# Altium footprint library 功率控制板.PcbLib: 36 footprints (part 2 of 3)
Each footprint in its own frame and in the unit in brackets; x right, y up, seen from the top. Pads: shape width x height; smd on the part's side, far side on the other; paste and mask are expansions set on the pad; w line width, h text height; cw(c..) or ccw(c..) is an arc to the next point about the centre after c.
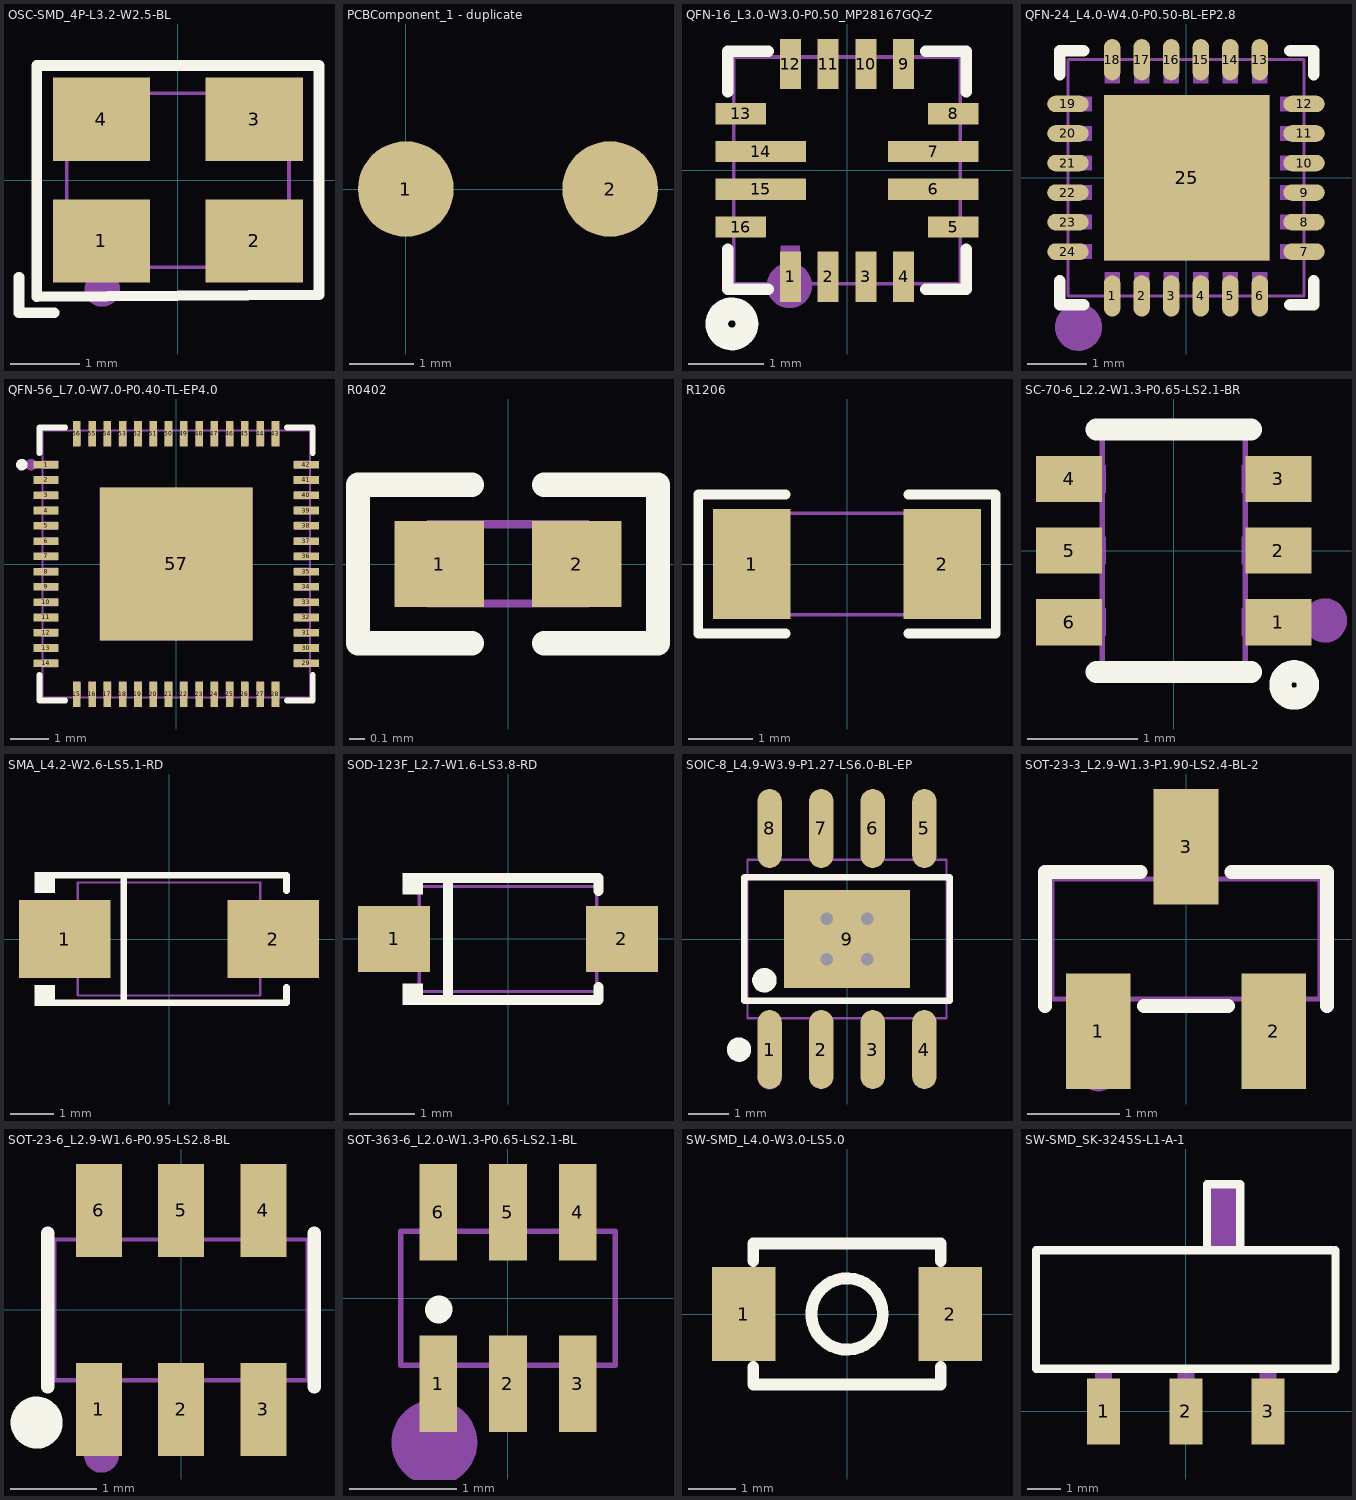
[diagram p1: the footprints below, top view; thin cyan lines are the x and y axes]

## OSC-SMD_4P-L3.2-W2.5-BL [mm]
pads (4):
  rect 1.4x1.2 smd: 1(-1.1,-0.875) 2(1.1,-0.875) 3(1.1,0.875) 4(-1.1,0.875)
Top Overlay:
  lines w0.152: -2.286,-1.397 -2.286,-1.905 -1.778,-1.905 ; -2.029,-1.679 2.032,-1.651 2.032,0 2.032,1.651 -2.029,1.651 -2.029,-1.679
Mechanical 6:
  circle w0.254: c-1.088,-1.567 r0.127
  region: -1.206,1.206 -1.206,0.572 -1.079,0.572 -1.079,1.206
  region: -1.46,0.953 -0.699,0.953 -0.699,0.826 -1.46,0.826
  region: -1.738,-0.536 -1.702,-0.536 -1.702,-0.608 -1.738,-0.608
  region: -1.702,-0.536 -1.666,-0.536 -1.666,-0.608 -1.702,-0.608
  region: -1.666,-0.5 -1.63,-0.5 -1.63,-0.608 -1.666,-0.608
  region: -1.63,-0.464 -1.594,-0.464 -1.594,-0.572 -1.63,-0.572
  region: -1.594,-0.464 -1.558,-0.464 -1.558,-1.004 -1.594,-1.004
  region: -1.558,-0.428 -1.522,-0.428 -1.522,-1.004 -1.558,-1.004
  region: -1.522,-0.428 -1.486,-0.428 -1.486,-1.004 -1.522,-1.004
  region: -1.486,-0.428 -1.45,-0.428 -1.45,-1.004 -1.486,-1.004
Mechanical 15:
  region: 0.6,-0.449 1.5,-0.449 1.5,-1.249 0.6,-1.249
  region: -1.5,-0.449 -0.6,-0.449 -0.6,-1.249 -1.5,-1.249
  region: -1.5,1.249 -0.6,1.249 -0.6,0.449 -1.5,0.449
  region: 0.6,1.249 1.5,1.249 1.5,0.449 0.6,0.449
  lines w0.051: -1.6,-1.25 1.6,-1.25 1.6,1.25 -1.6,1.25 -1.6,-1.25

## PCBComponent_1 - duplicate [mm]
pads (2):
  round 1.5 smd: 1(0,0) 2(3.2,0)

## QFN-16_L3.0-W3.0-P0.50_MP28167GQ-Z [mm]
pads (16):
  rect 0.28x0.665 smd: 1(-0.75,-1.407) 2(-0.25,-1.407) 3(0.25,-1.407) 4(0.75,-1.407) 9(0.75,1.407) 10(0.25,1.407) 11(-0.25,1.407) 12(-0.75,1.407)
  rect 0.665x0.28 smd: 5(1.407,-0.75) 8(1.407,0.75) 13(-1.407,0.75) 16(-1.407,-0.75)
  rect 1.2x0.28 smd: 6(1.14,-0.25) 7(1.14,0.25) 14(-1.14,0.25) 15(-1.14,-0.25)
Top Overlay:
  circle w0.3: c-1.524,-2.032 r0.2
  lines w0.152: -1.576,-1.042 -1.576,-1.576 -1.042,-1.576 ; -1.576,1.042 -1.576,1.576 -1.042,1.576 ; 1.042,-1.576 1.576,-1.576 1.576,-1.042 ; 1.042,1.576 1.576,1.576 1.576,1.042
Mechanical 6:
  circle w0.3: c-0.762,-1.524 r0.15
Mechanical 15:
  region: -1.5,-0.125 -0.6,-0.125 -0.6,-0.375 -1.5,-0.375
  region: -1.5,0.375 -0.6,0.375 -0.6,0.125 -1.5,0.125
  region: 0.6,0.375 1.5,0.375 1.5,0.125 0.6,0.125
  region: 0.6,-0.125 1.5,-0.125 1.5,-0.375 0.6,-0.375
  region: -0.875,-1 -0.625,-1 -0.625,-1.5 -0.875,-1.5
  region: -1.5,-0.875 -1.5,-0.625 -1.1,-0.625 -1.1,-0.875
  region: -1.5,0.625 -1.5,0.875 -1.1,0.875 -1.1,0.625
  region: -0.625,1.5 -0.625,1.1 -0.875,1.1 -0.875,1.5
  region: -0.125,1.5 -0.125,1.1 -0.375,1.1 -0.375,1.5
  region: 0.375,1.5 0.375,1.1 0.125,1.1 0.125,1.5
  region: 0.875,1.5 0.875,1.1 0.625,1.1 0.625,1.5
  region: 1.5,0.625 1.5,0.875 1.1,0.875 1.1,0.625
  region: 1.5,-0.875 1.5,-0.625 1.1,-0.625 1.1,-0.875
  region: 0.875,-1.5 0.875,-1.1 0.625,-1.1 0.625,-1.5
  region: 0.375,-1.5 0.375,-1.1 0.125,-1.1 0.125,-1.5
  region: -0.125,-1.5 -0.125,-1.1 -0.375,-1.1 -0.375,-1.5
  lines w0.051: -1.5,-1.5 1.5,-1.5 1.5,1.5 -1.5,1.5 -1.5,-1.5

## QFN-24_L4.0-W4.0-P0.50-BL-EP2.8 [mm]
pads (25):
  oval 0.28x0.7 smd paste-100 mask+0.051: 1(-1.25,-2) 2(-0.75,-2) 3(-0.25,-2) 4(0.25,-2) 5(0.75,-2) 6(1.25,-2) 13(1.25,2) 14(0.75,2) 15(0.25,2) 16(-0.25,2) 17(-0.75,2) 18(-1.25,2)
  oval 0.7x0.28 smd paste-100 mask+0.051: 7(2,-1.25) 8(2,-0.75) 9(2,-0.25) 10(2,0.25) 11(2,0.75) 12(2,1.25) 19(-2,1.25) 20(-2,0.75) 21(-2,0.25) 22(-2,-0.25) 23(-2,-0.75) 24(-2,-1.25)
  rect 2.8x2.8 smd paste-100 mask+0.051: 25(0.013,0)
Top Overlay:
  lines w0.2: -2.137,-1.75 -2.137,-2.15 -1.737,-2.15 ; -2.137,1.75 -2.137,2.15 -1.737,2.15 ; 1.763,-2.15 2.163,-2.15 2.163,-1.75 ; 1.763,2.15 2.163,2.15 2.163,1.75
Top Paste:
  region: -1.107,-1.12 -1.107,1.12 1.133,1.12 1.133,-1.12
Mechanical 6:
  circle w0.4: c-1.82,-2.53 r0.2
Mechanical 15:
  region: 1.6,1.125 1.6,1.375 2,1.375 2,1.125
  region: 1.6,0.625 1.6,0.875 2,0.875 2,0.625
  region: 1.6,0.125 1.6,0.375 2,0.375 2,0.125
  region: 1.6,-0.375 1.6,-0.125 2,-0.125 2,-0.375
  region: 1.6,-0.875 1.6,-0.625 2,-0.625 2,-0.875
  region: 1.6,-1.375 1.6,-1.125 2,-1.125 2,-1.375
  region: 1.125,-1.6 1.375,-1.6 1.375,-2 1.125,-2
  region: 0.625,-1.6 0.875,-1.6 0.875,-2 0.625,-2
  region: 0.125,-1.6 0.375,-1.6 0.375,-2 0.125,-2
  region: -0.375,-1.6 -0.125,-1.6 -0.125,-2 -0.375,-2
  region: -0.875,-1.6 -0.625,-1.6 -0.625,-2 -0.875,-2
  region: -1.375,-1.6 -1.125,-1.6 -1.125,-2 -1.375,-2
  region: -1.6,-1.125 -1.6,-1.375 -2,-1.375 -2,-1.125
  region: -1.6,-0.625 -1.6,-0.875 -2,-0.875 -2,-0.625
  region: -1.6,-0.125 -1.6,-0.375 -2,-0.375 -2,-0.125
  region: -1.6,0.375 -1.6,0.125 -2,0.125 -2,0.375
  region: -1.6,0.875 -1.6,0.625 -2,0.625 -2,0.875
  region: -1.6,1.375 -1.6,1.125 -2,1.125 -2,1.375
  region: 1.375,1.6 1.125,1.6 1.125,2 1.375,2
  region: -1.125,1.6 -1.375,1.6 -1.375,2 -1.125,2
  region: -0.625,1.6 -0.875,1.6 -0.875,2 -0.625,2
  region: -0.125,1.6 -0.375,1.6 -0.375,2 -0.125,2
  region: 0.375,1.6 0.125,1.6 0.125,2 0.375,2
  region: 0.875,1.6 0.625,1.6 0.625,2 0.875,2
  region: -1.387,1.4 1.413,1.4 1.413,-1.4 -1.387,-1.4
  lines w0.051: -2,-2 -2,2 2,2 2,-2 -2,-2

## QFN-56_L7.0-W7.0-P0.40-TL-EP4.0 [mm]
pads (57):
  rect 0.665x0.2 smd paste-100 mask+0.051: 1(-3.408,2.6) 2(-3.408,2.2) 3(-3.408,1.8) 4(-3.408,1.4) 5(-3.408,1) 6(-3.408,0.6) 7(-3.408,0.2) 8(-3.408,-0.2) 9(-3.408,-0.6) 10(-3.408,-1) 11(-3.408,-1.4) 12(-3.408,-1.8) 13(-3.408,-2.2) 14(-3.408,-2.6) 29(3.408,-2.6) 30(3.408,-2.2) 31(3.408,-1.8) 32(3.408,-1.4) 33(3.408,-1) 34(3.408,-0.6) 35(3.408,-0.2) 36(3.408,0.2) 37(3.408,0.6) 38(3.408,1) 39(3.408,1.4) 40(3.408,1.8) 41(3.408,2.2) 42(3.408,2.6)
  rect 0.2x0.665 smd paste-100 mask+0.051: 15(-2.6,-3.408) 16(-2.2,-3.408) 17(-1.8,-3.408) 18(-1.4,-3.408) 19(-1,-3.408) 20(-0.6,-3.408) 21(-0.2,-3.408) 22(0.2,-3.408) 23(0.6,-3.408) 24(1,-3.408) 25(1.4,-3.408) 26(1.8,-3.408) 27(2.2,-3.408) 28(2.6,-3.408) 43(2.6,3.408) 44(2.2,3.408) 45(1.8,3.408) 46(1.4,3.408) 47(1,3.408) 48(0.6,3.408) 49(0.2,3.408) 50(-0.2,3.408) 51(-0.6,3.408) 52(-1,3.408) 53(-1.4,3.408) 54(-1.8,3.408) 55(-2.2,3.408) 56(-2.6,3.408)
  rect 4x4 smd paste-100 mask+0.051: 57(0,0)
Top Overlay:
  circle w0.15: c-4.04,2.6 r0.075
  lines w0.152: -3.576,-2.902 -3.576,-3.576 -2.902,-3.576 ; -3.576,2.903 -3.576,3.576 -2.902,3.576 ; 2.903,-3.576 3.576,-3.576 3.576,-2.902 ; 2.903,3.576 3.576,3.576 3.576,2.903
Top Paste:
  drawing of 57 lines, arcs and shapes, not listed
Mechanical 6:
  circle w0.15: c-3.8,2.6 r0.075
Mechanical 15:
  drawing of 61 lines, arcs and shapes, not listed

## R0402 [mm]
pads (2):
  rect 0.566x0.54 smd paste-100 mask+0.051: 1(-0.433,0) 2(0.433,0)
Top Overlay:
  lines w0.152: -0.226,-0.499 -0.944,-0.499 -0.944,0.499 -0.226,0.499 ; 0.226,-0.499 0.944,-0.499 0.944,0.499 0.226,0.499
Top Paste:
  region: -0.135,-0.23 -0.135,0.23 -0.175,0.27 -0.676,0.27 -0.716,0.23 -0.716,-0.23 -0.676,-0.27 -0.175,-0.27
  region: 0.135,-0.23 0.135,0.23 0.175,0.27 0.676,0.27 0.716,0.23 0.716,-0.23 0.676,-0.27 0.175,-0.27
Mechanical 15:
  region: -0.249,0.25 -0.249,-0.25 -0.499,-0.25 -0.499,0.25
  region: 0.251,-0.25 0.251,0.25 0.501,0.25 0.501,-0.25
  lines w0.051: -0.5,-0.25 0.5,-0.25 0.5,0.25 -0.5,0.25 -0.5,-0.25

## R1206 [mm]
pads (2):
  rect 1.208x1.701 smd paste-100 mask+0.051: 1(-1.479,0) 2(1.479,0)
Top Overlay:
  lines w0.152: -0.951,-1.079 -2.311,-1.079 -2.311,1.079 -0.951,1.079 ; 0.951,-1.079 2.311,-1.079 2.311,1.079 0.951,1.079
Top Paste:
  region: -0.875,-0.75 -0.875,-0.389 -0.975,-0.289 -1.186,-0.289 -1.286,-0.189 -1.286,0.189 -1.186,0.289 -0.975,0.289 -0.875,0.389 -0.875,0.75 -0.975,0.85 -1.983,0.85 -2.083,0.75 -2.083,-0.75 -1.983,-0.85 -0.975,-0.85
  region: 0.875,-0.75 0.875,-0.389 0.975,-0.289 1.186,-0.289 1.286,-0.189 1.286,0.189 1.186,0.289 0.975,0.289 0.875,0.389 0.875,0.75 0.975,0.85 1.983,0.85 2.083,0.75 2.083,-0.75 1.983,-0.85 0.975,-0.85
Mechanical 15:
  region: 1.55,-0.788 1.55,0.788 1.1,0.788 1.1,-0.788
  region: -1.55,-0.788 -1.55,0.788 -1.1,0.788 -1.1,-0.788
  lines w0.051: -1.55,-0.788 1.55,-0.788 1.55,0.788 -1.55,0.788 -1.55,-0.788

## SC-70-6_L2.2-W1.3-P0.65-LS2.1-BR [mm]
pads (6):
  rect 0.6x0.42 smd: 1(0.95,-0.65) 2(0.95,0) 3(0.95,0.65) 4(-0.95,0.65) 5(-0.95,0) 6(-0.95,-0.65)
Top Overlay:
  lines w0.2: -0.7,-1.1 0.7,-1.1 ; -0.7,1.1 0.7,1.1 ; 1.091,-1.094 ccw(c1.092,-1.219) 1.093,-1.094
Mechanical 6:
  circle w0.2: c1.372,-0.635 r0.1
Mechanical 15:
  region: 0.618,0.525 0.618,0.775 0.763,0.775 0.763,0.525
  region: 0.753,0.525 0.753,0.775 1.053,0.775 1.053,0.525
  region: 0.618,-0.125 0.618,0.125 0.763,0.125 0.763,-0.125
  region: 0.753,-0.125 0.753,0.125 1.053,0.125 1.053,-0.125
  region: 0.618,-0.775 0.618,-0.525 0.763,-0.525 0.763,-0.775
  region: 0.753,-0.775 0.753,-0.525 1.053,-0.525 1.053,-0.775
  region: -0.616,-0.525 -0.616,-0.775 -0.761,-0.775 -0.761,-0.525
  region: -0.751,-0.525 -0.751,-0.775 -1.051,-0.775 -1.051,-0.525
  region: -0.616,0.125 -0.616,-0.125 -0.761,-0.125 -0.761,0.125
  region: -0.751,0.125 -0.751,-0.125 -1.051,-0.125 -1.051,0.125
  region: -0.751,0.775 -0.751,0.525 -1.051,0.525 -1.051,0.775
  region: -0.616,0.775 -0.616,0.525 -0.761,0.525 -0.761,0.775
  lines w0.051: -0.65,-1.1 -0.65,1.1 0.65,1.1 0.65,-1.1 -0.65,-1.1

## SMA_L4.2-W2.6-LS5.1-RD [mm]
pads (2):
  rect 2.1x1.8 smd: 1(-2.4,0) 2(2.4,0)
Top Overlay:
  region: -2.625,1.54 -2.625,1.062 -3.082,1.062 -3.082,1.54
  region: -2.625,-1.54 -2.625,-1.062 -3.082,-1.062 -3.082,-1.54
  lines w0.152: -2.701,-1.464 2.701,-1.464 2.701,-1.113 ; -2.701,1.464 2.701,1.464 2.701,1.113 ; -1.039,-1.364 -1.039,1.364
Mechanical 6:
  region: -2.432,-0.097 -2.432,0.097 -1.659,0.097 -1.659,-0.097
  region: 2.432,-0.097 2.432,0.097 1.659,0.097 1.659,-0.097
  region: 2.142,-0.644 2.142,0.644 1.949,0.644 1.949,-0.644
Mechanical 15:
  region: 1.41,-0.7 1.41,0.7 2.55,0.7 2.55,-0.7
  region: -1.41,0.7 -1.41,-0.7 -2.55,-0.7 -2.55,0.7
  lines w0.051: -2.1,-1.3 2.1,-1.3 2.1,1.3 -2.1,1.3 -2.1,-1.3

## SOD-123F_L2.7-W1.6-LS3.8-RD [mm]
pads (2):
  rect 1.1x1 smd: 1(-1.735,0) 2(1.735,0)
Top Overlay:
  region: -1.3,-1.003 -1.3,-0.683 -1.605,-0.683 -1.605,-1.003
  region: -1.3,1.002 -1.3,0.682 -1.605,0.682 -1.605,1.002
  lines w0.152: -1.376,-0.926 1.376,-0.926 1.376,-0.733 ; -1.376,0.926 1.376,0.926 1.376,0.733 ; -0.917,-0.876 -0.917,0.876
Mechanical 6:
  region: 1.747,-0.384 1.555,-0.384 1.555,0.384 1.747,0.384
  region: 2.035,0.096 2.035,-0.096 1.267,-0.096 1.267,0.096
  region: -2.032,0.127 -2.032,-0.065 -1.264,-0.065 -1.264,0.127
Mechanical 15:
  region: -1.9,-0.275 -1.9,0.275 -1.31,0.275 -1.31,-0.275
  region: 1.9,0.275 1.9,-0.275 1.31,-0.275 1.31,0.275
  lines w0.051: -1.35,-0.8 1.35,-0.8 1.35,0.8 -1.35,0.8 -1.35,-0.8

## SOIC-8_L4.9-W3.9-P1.27-LS6.0-BL-EP [mm]
pads (9):
  oval 0.602x1.941 smd: 1(-1.905,-2.721) 2(-0.635,-2.721) 3(0.635,-2.721) 4(1.905,-2.721) 5(1.905,2.721) 6(0.635,2.721) 7(-0.635,2.721) 8(-1.905,2.721)
  rect 3.098x2.41 smd: 9(0,0)
via 0.5,-0.5 diameter 0.61 hole 0.305
via -0.5,-0.5 diameter 0.61 hole 0.305
via 0.5,0.5 diameter 0.61 hole 0.305
via -0.5,0.5 diameter 0.61 hole 0.305
Top Overlay:
  circle w0.3: c-2.658,-2.721 r0.15
  circle w0.3: c-2.032,-1.016 r0.15
  lines w0.152: -2.526,-1.521 2.526,-1.521 2.526,1.521 -2.526,1.521 -2.526,-1.521
Mechanical 6:
  circle w0.3: c-1.905,-3.4 r0.15
Mechanical 15:
  region: -1.549,1.205 1.549,1.205 1.549,-1.205 -1.549,-1.205
  region: 1.69,2.36 1.69,1.94 2.12,1.94 2.12,2.36
  region: 1.69,3 1.69,2.35 2.12,2.35 2.12,3
  region: 0.42,2.36 0.42,1.94 0.85,1.94 0.85,2.36
  region: 0.42,3 0.42,2.35 0.85,2.35 0.85,3
  region: -0.85,2.36 -0.85,1.94 -0.42,1.94 -0.42,2.36
  region: -0.85,3 -0.85,2.35 -0.42,2.35 -0.42,3
  region: -2.12,2.36 -2.12,1.94 -1.69,1.94 -1.69,2.36
  region: -2.12,3 -2.12,2.35 -1.69,2.35 -1.69,3
  region: 1.69,-2.36 1.69,-1.94 2.12,-1.94 2.12,-2.36
  region: 1.69,-3 1.69,-2.35 2.12,-2.35 2.12,-3
  region: 0.42,-2.36 0.42,-1.94 0.85,-1.94 0.85,-2.36
  region: 0.42,-3 0.42,-2.35 0.85,-2.35 0.85,-3
  region: -0.85,-2.36 -0.85,-1.94 -0.42,-1.94 -0.42,-2.36
  region: -0.85,-3 -0.85,-2.35 -0.42,-2.35 -0.42,-3
  region: -2.12,-2.36 -2.12,-1.94 -1.69,-1.94 -1.69,-2.36
  region: -2.12,-3 -2.12,-2.35 -1.69,-2.35 -1.69,-3
  lines w0.051: -2.45,-1.95 2.45,-1.95 2.45,1.95 -2.45,1.95 -2.45,-1.95

## SOT-23-3_L2.9-W1.3-P1.90-LS2.4-BL-2 [mm]
pads (3):
  rect 0.7x1.25 smd: 1(-0.95,-1) 2(0.95,-1) 3(0,1)
Top Overlay:
  lines w0.152: -1.526,-0.726 -1.526,0.726 -0.495,0.726 ; -0.455,-0.726 0.455,-0.726 ; 0.495,0.726 1.526,0.726 1.526,-0.726
Mechanical 6:
  circle w0.2: c-0.95,-1.45 r0.1
Mechanical 15:
  region: -0.2,0.925 -0.2,1.2 0.2,1.2 0.2,0.925
  region: -0.2,0.64 -0.2,0.935 0.2,0.935 0.2,0.64
  region: 0.75,-1.2 0.75,-0.925 1.15,-0.925 1.15,-1.2
  region: 0.75,-0.935 0.75,-0.64 1.15,-0.64 1.15,-0.935
  region: -1.15,-1.2 -1.15,-0.925 -0.75,-0.925 -0.75,-1.2
  region: -1.15,-0.935 -1.15,-0.64 -0.75,-0.64 -0.75,-0.935
  lines w0.051: -1.45,-0.65 -1.45,0.65 1.45,0.65 1.45,-0.65 -1.45,-0.65

## SOT-23-6_L2.9-W1.6-P0.95-LS2.8-BL [mm]
pads (6):
  rect 0.532x1.072 smd paste+0 mask+0.051: 1(-0.95,-1.149) 2(0,-1.149) 3(0.95,-1.149) 4(0.95,1.149) 5(0,1.149) 6(-0.95,1.149)
Top Overlay:
  circle w0.3: c-1.668,-1.301 r0.15
  lines w0.152: -1.539,-0.889 -1.539,0.889 ; 1.539,-0.889 1.539,0.889
Mechanical 6:
  circle w0.2: c-0.92,-1.68 r0.1
Mechanical 15:
  region: -1.165,0.935 -0.735,0.935 -0.735,0.803 -1.165,0.803
  region: -1.165,0.925 -0.735,0.925 -0.735,1.4 -1.165,1.4
  region: -0.215,0.935 0.215,0.935 0.215,0.803 -0.215,0.803
  region: -0.215,0.925 0.215,0.925 0.215,1.4 -0.215,1.4
  region: 0.735,0.935 1.165,0.935 1.165,0.803 0.735,0.803
  region: 0.735,0.925 1.165,0.925 1.165,1.4 0.735,1.4
  region: 0.735,-0.803 1.165,-0.803 1.165,-0.935 0.735,-0.935
  region: 0.735,-0.925 1.165,-0.925 1.165,-1.4 0.735,-1.4
  region: -0.215,-0.803 0.215,-0.803 0.215,-0.935 -0.215,-0.935
  region: -0.215,-0.925 0.215,-0.925 0.215,-1.4 -0.215,-1.4
  region: -1.165,-0.803 -0.735,-0.803 -0.735,-0.935 -1.165,-0.935
  region: -1.165,-0.925 -0.735,-0.925 -0.735,-1.4 -1.165,-1.4
  lines w0.051: -1.463,-0.813 -1.463,0.813 1.463,0.813 1.463,-0.813 -1.463,-0.813

## SOT-363-6_L2.0-W1.3-P0.65-LS2.1-BL [mm]
pads (6):
  rect 0.35x0.9 smd: 1(-0.65,-0.8) 2(0,-0.8) 3(0.65,-0.8) 4(0.65,0.8) 5(0,0.8) 6(-0.65,0.8)
Top Overlay:
  lines w0.254: -0.648,-0.108 -0.644,-0.103
Mechanical 6:
  circle w0.4: c-0.686,-1.346 r0.2
Mechanical 15:
  region: -0.112,0.615 -0.112,0.86 0.112,0.86 0.112,0.615
  region: -0.112,0.85 -0.112,1.05 0.112,1.05 0.112,0.85
  region: -0.763,0.615 -0.763,0.86 -0.538,0.86 -0.538,0.615
  region: -0.763,0.85 -0.763,1.05 -0.538,1.05 -0.538,0.85
  region: 0.538,0.615 0.538,0.86 0.763,0.86 0.763,0.615
  region: 0.538,0.85 0.538,1.05 0.763,1.05 0.763,0.85
  region: 0.538,-0.86 0.538,-0.615 0.763,-0.615 0.763,-0.86
  region: 0.538,-1.05 0.538,-0.85 0.763,-0.85 0.763,-1.05
  region: -0.112,-0.86 -0.112,-0.615 0.112,-0.615 0.112,-0.86
  region: -0.112,-1.05 -0.112,-0.85 0.112,-0.85 0.112,-1.05
  region: -0.763,-0.86 -0.763,-0.615 -0.538,-0.615 -0.538,-0.86
  region: -0.763,-1.05 -0.763,-0.85 -0.538,-0.85 -0.538,-1.05
  lines w0.051: -1,-0.625 -1,0.625 1,0.625 1,-0.625 -1,-0.625

## SW-SMD_L4.0-W3.0-LS5.0 [mm]
pads (2):
  rect 1.35x2 smd paste+0 mask+0.051: 1(-2.2,0) 2(2.2,0)
Top Overlay:
  circle w0.254: c0,0 r0.762
  lines w0.254: -2,-1.131 -2,-1.5 2,-1.5 2,-1.131 ; -2,1.131 -2,1.5 2,1.5 2,1.131
Mechanical 15:
  region: 1.803,0.65 2.503,0.65 2.503,-0.65 1.803,-0.65
  region: -2.503,0.65 -1.803,0.65 -1.803,-0.65 -2.503,-0.65
  lines w0.051: -2,-1.5 -2,1.5 2,1.5 2,-1.5 -2,-1.5

## SW-SMD_SK-3245S-L1-A-1 [mm]
pads (3):
  rect 1x2 smd: 1(-2.5,0) 2(0,0) 3(2.5,0)
Top Overlay:
  lines w0.254: 0.644,4.895 0.644,6.905 1.651,6.905 1.651,4.895 ; 4.445,4.895 -4.55,4.895 -4.55,1.295 4.55,1.295 4.55,4.895
Mechanical 6:
  region: 0.635,4.953 0.635,6.858 1.651,6.858 1.651,4.953
Mechanical 15:
  region: 2.25,-0.33 2.25,0.67 2.75,0.67 2.75,-0.33
  region: 2.25,0.66 2.25,1.33 2.75,1.33 2.75,0.66
  region: -0.25,-0.33 -0.25,0.67 0.25,0.67 0.25,-0.33
  region: -0.25,0.66 -0.25,1.33 0.25,1.33 0.25,0.66
  region: -2.75,-0.33 -2.75,0.67 -2.25,0.67 -2.25,-0.33
  region: -2.75,0.66 -2.75,1.33 -2.25,1.33 -2.25,0.66
  lines w0.051: -4.552,1.285 -4.552,4.888 0.649,4.888 0.649,6.916 0.651,6.913 1.66,6.913 1.66,4.901 4.564,4.901 4.564,1.285 -4.552,1.285